# Altium integrated library AD Video Processor.IntLib: 3 symbols
Pins are listed as number, name and electrical type; pins without a type are passive.

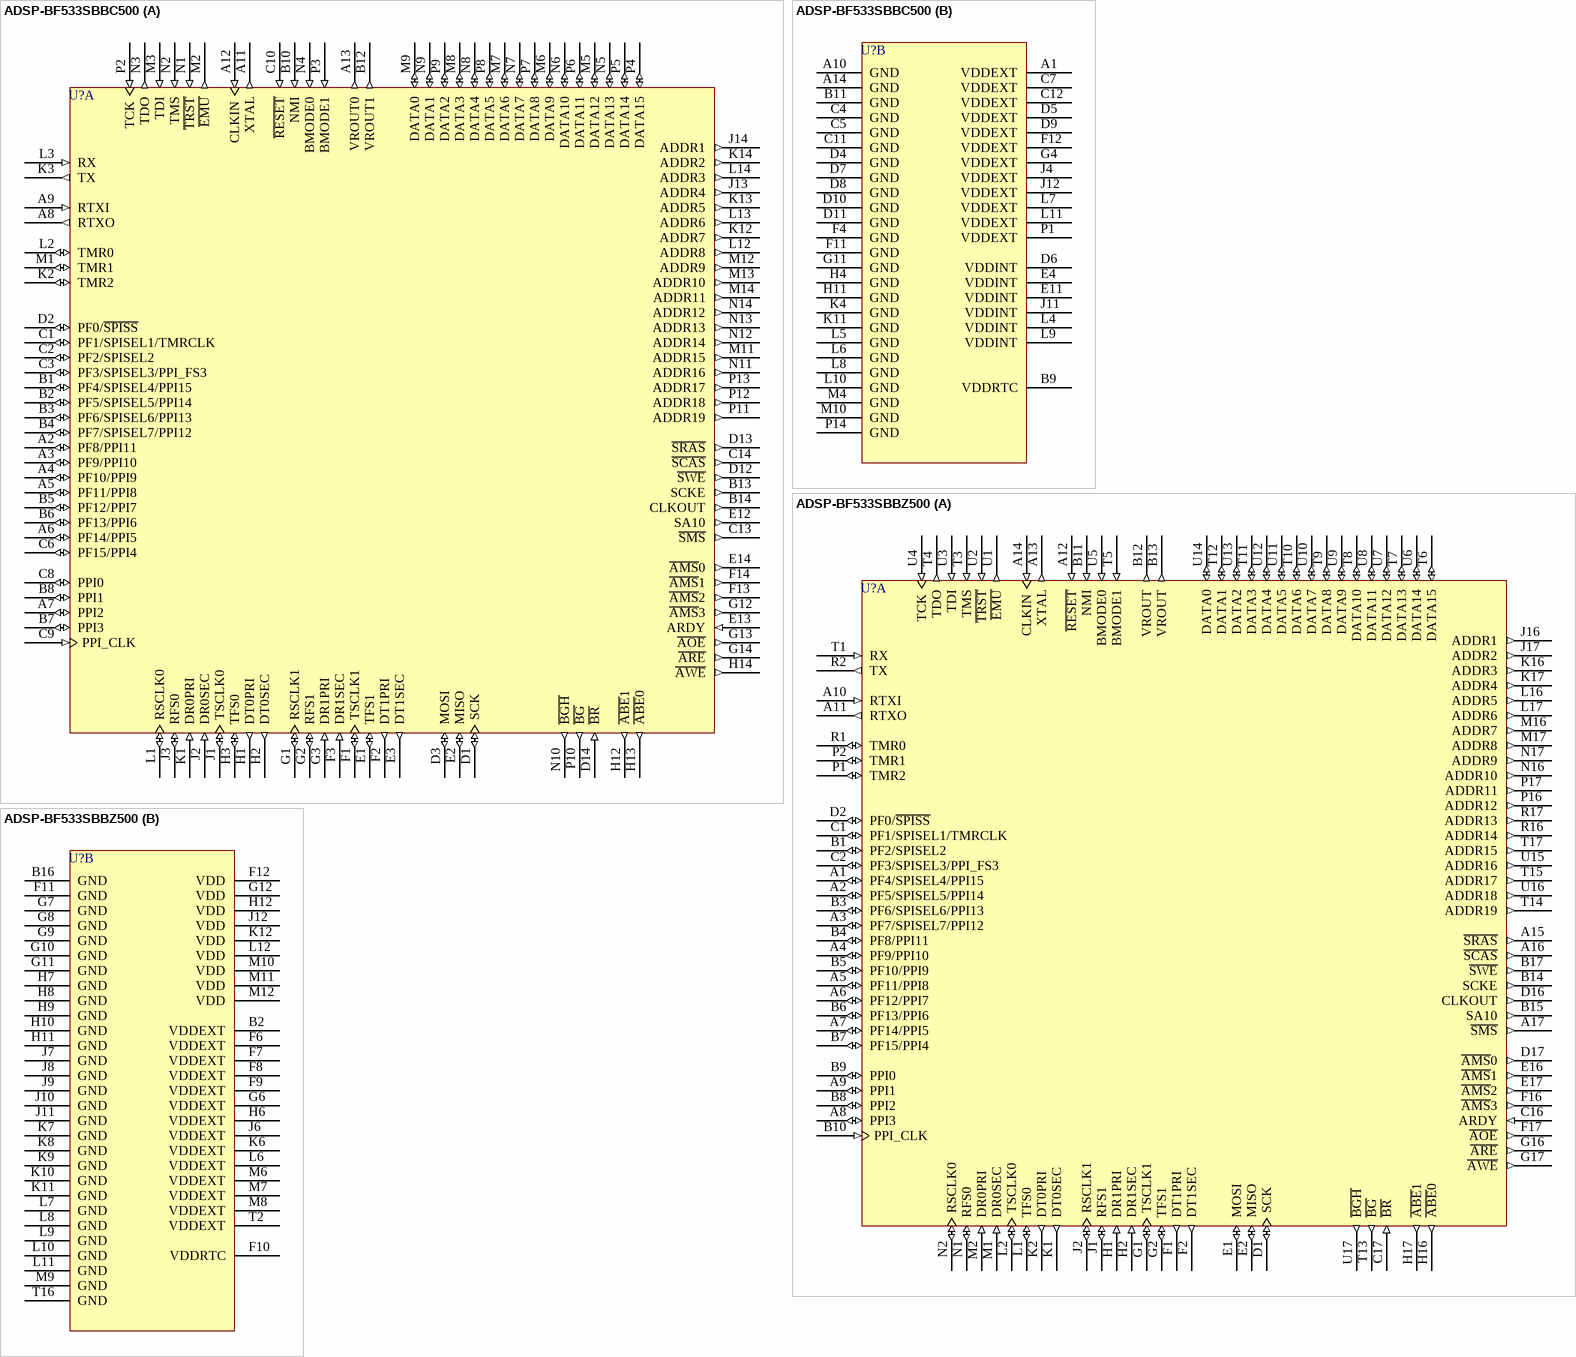
[diagram p0: symbols ADSP-BF533SBBC500 to ADSP-BF533SBBZ500]

## ADSP-BF533SBBC500
designator U?
Blackfin Embedded Processor for Video/Imaging, 160-Pin Mini BGA, 500 MHz, Industrial; Note: Pull Pin D14 HIGH and Pin A9 LOW when not used.; Note: Pulled Pin E2 HIGH through a 4.7K Ohm resistor if booting via the SPI port.; Note: Pull Pin N1 LOW if the JTAG port will not be used.; Published: 26-May-2004; LatestRevisionDate: 13-Apr-2006; LatestRevisionNote: IPC-7351 Footprint Added.; DatasheetVersion: Rev.O, Mar-2004; PackageVersion: Rev. 0, Mar-2004; PackageReference: BC-160; Publisher: Altium Limited; PackageDescription: 160-Ball Mini Plastic Ball Grid Array 0.8 mm Pitch; Code_JEDEC: MO-205-AE; ComponentLink1Description: Manufacturer Link; ComponentLink1URL: http://www.analog.com/; ComponentLink2Description: Datasheet; ComponentLink2URL: http://www.analog.com/UploadedFiles/Data_Sheets/144127970ADSP_BF531_2_3_a.pdf
footprint BC-160 (BGA, 160-Leads, Body 12x12mm, Pitch 0.8mm)
3D model BF533-BC160 (160-Ball Mini Plastic Ball Grid Array 0.8 mm Pitch)
part A pins: A2 PF8/PPI11 (io), A3 PF9/PPI10 (io), A4 PF10/PPI9 (io), A5 PF11/PPI8 (io), A6 PF14/PPI5 (io), A7 PPI2 (io), A8 RTXO (out), A9 RTXI (in), A11 XTAL (out), A12 CLKIN (in), A13 VROUT0 (out), B1 PF4/SPISEL4/PPI15 (io), B2 PF5/SPISEL5/PPI14 (io), B3 PF6/SPISEL6/PPI13 (io), B4 PF7/SPISEL7/PPI12 (io), B5 PF12/PPI7 (io), B6 PF13/PPI6 (io), B7 PPI3 (io), B8 PPI1 (io), B10 NMI (in), B12 VROUT1 (out), B13 SCKE (out), B14 CLKOUT (out), C1 PF1/SPISEL1/TMRCLK (io), C2 PF2/SPISEL2 (io), C3 PF3/SPISEL3/PPI_FS3 (io), C6 PF15/PPI4 (io), C8 PPI0 (io), C9 PPI_CLK (in), C10 ~{RESET} (in), C13 ~{SMS} (out), C14 ~{SCAS} (out), D1 SCK (io), D2 PF0/~{SPISS} (io), D3 MOSI (io), D12 ~{SWE} (out), D13 ~{SRAS} (out), D14 ~{BR} (in), E1 TFS1 (io), E2 MISO (io), E3 DT1SEC (out), E12 SA10 (out), E13 ARDY (in), E14 ~{AMS}0 (out), F1 TSCLK1 (io), F2 DT1PRI (out), F3 DR1SEC (in), F13 ~{AMS}2 (out), F14 ~{AMS}1 (out), G1 RSCLK1 (io), G2 RFS1 (io), G3 DR1PRI (in), G12 ~{AMS}3 (out), G13 ~{AOE} (out), G14 ~{ARE} (out), H1 DT0PRI (out), H2 DT0SEC (out), H3 TFS0 (io), H12 ~{ABE}1 (out), H13 ~{ABE}0 (out), H14 ~{AWE} (out), J1 TSCLK0 (io), J2 DR0SEC (in), J3 RFS0 (io), J13 ADDR4 (out), J14 ADDR1 (out), K1 DR0PRI (in), K2 TMR2 (io), K3 TX (out), K12 ADDR7 (out), K13 ADDR5 (out), K14 ADDR2 (out), L1 RSCLK0 (io), L2 TMR0 (io), L3 RX (in), L12 ADDR8 (out), L13 ADDR6 (out), L14 ADDR3 (out), M1 TMR1 (io), M2 ~{EMU} (out), M3 TDI (in), M5 DATA12 (io), M6 DATA9 (io), M7 DATA6 (io), M8 DATA3 (io), M9 DATA0 (io), M11 ADDR15 (out), M12 ADDR9 (out), M13 ADDR10 (out), M14 ADDR11 (out), N1 ~{TRST} (in), N2 TMS (in), N3 TDO (out), N4 BMODE0 (in), N5 DATA13 (io), N6 DATA10 (io), N7 DATA7 (io), N8 DATA4 (io), N9 DATA1 (io), N10 ~{BGH} (out), N11 ADDR16 (out), N12 ADDR14 (out), N13 ADDR13 (out), N14 ADDR12 (out), P2 TCK (in), P3 BMODE1 (in), P4 DATA15 (io), P5 DATA14 (io), P6 DATA11 (io), P7 DATA8 (io), P8 DATA5 (io), P9 DATA2 (io), P10 ~{BG} (out), P11 ADDR19 (out), P12 ADDR18 (out), P13 ADDR17 (out)
part B pins: A1 VDDEXT (power), A10 GND (power), A14 GND (power), B9 VDDRTC (power), B11 GND (power), C4 GND (power), C5 GND (power), C7 VDDEXT (power), C11 GND (power), C12 VDDEXT (power), D4 GND (power), D5 VDDEXT (power), D6 VDDINT (power), D7 GND (power), D8 GND (power), D9 VDDEXT (power), D10 GND (power), D11 GND (power), E4 VDDINT (power), E11 VDDINT (power), F4 GND (power), F11 GND (power), F12 VDDEXT (power), G4 VDDEXT (power), G11 GND (power), H4 GND (power), H11 GND (power), J4 VDDEXT (power), J11 VDDINT (power), J12 VDDEXT (power), K4 GND (power), K11 GND (power), L4 VDDINT (power), L5 GND (power), L6 GND (power), L7 VDDEXT (power), L8 GND (power), L9 VDDINT (power), L10 GND (power), L11 VDDEXT (power), M4 GND (power), M10 GND (power), P1 VDDEXT (power), P14 GND (power)

## ADSP-BF533SBBZ500
designator U?
Blackfin Embedded Processor for Video/Imaging, 169-Pin PBGA, Lead-Free, 500 MHz, Industrial; Note: Pull Pin C17 HIGH and Pin A10 LOW when not used.; Note: Pulled Pin E2 HIGH through a 4.7K Ohm resistor if booting via the SPI port.; Note: Pull Pin U2 LOW if the JTAG port will not be used.; Published: 26-May-2004; LatestRevisionDate: 13-Apr-2006; LatestRevisionNote: IPC-7351 Footprint Added.; DatasheetVersion: Rev.O, Mar-2004; PackageVersion: Rev. 0, Mar-2004; PackageReference: B-169; Publisher: Altium Limited; PackageDescription: 169-Ball Mini Plastic Ball Grid Array 1 mm Pitch; Code_JEDEC: MS-034-AAG-2; ComponentLink1Description: Manufacturer Link; ComponentLink1URL: http://www.analog.com/; ComponentLink2Description: Datasheet; ComponentLink2URL: http://www.analog.com/UploadedFiles/Data_Sheets/144127970ADSP_BF531_2_3_a.pdf
footprint B-169 (BGA, 169-Leads, Body 19x19mm, Pitch 1mm)
3D model BF533-B169 (169-Ball Mini Plastic Ball Grid Array 1 mm Pitch)
part A pins: A1 PF4/SPISEL4/PPI15 (io), A2 PF5/SPISEL5/PPI14 (io), A3 PF7/SPISEL7/PPI12 (io), A4 PF9/PPI10 (io), A5 PF11/PPI8 (io), A6 PF12/PPI7 (io), A7 PF14/PPI5 (io), A8 PPI3 (io), A9 PPI1 (io), A10 RTXI (in), A11 RTXO (out), A12 ~{RESET} (in), A13 XTAL (out), A14 CLKIN (in), A15 ~{SRAS} (out), A16 ~{SCAS} (out), A17 ~{SMS} (out), B1 PF2/SPISEL2 (io), B3 PF6/SPISEL6/PPI13 (io), B4 PF8/PPI11 (io), B5 PF10/PPI9 (io), B6 PF13/PPI6 (io), B7 PF15/PPI4 (io), B8 PPI2 (io), B9 PPI0 (io), B10 PPI_CLK (in), B11 NMI (in), B12 VROUT (out), B13 VROUT (out), B14 SCKE (out), B15 SA10 (out), B17 ~{SWE} (out), C1 PF1/SPISEL1/TMRCLK (io), C2 PF3/SPISEL3/PPI_FS3 (io), C16 ARDY (in), C17 ~{BR} (in), D1 SCK (io), D2 PF0/~{SPISS} (io), D16 CLKOUT (out), D17 ~{AMS}0 (out), E1 MOSI (io), E2 MISO (io), E16 ~{AMS}1 (out), E17 ~{AMS}2 (out), F1 DT1PRI (out), F2 DT1SEC (out), F16 ~{AMS}3 (out), F17 ~{AOE} (out), G1 TSCLK1 (io), G2 TFS1 (io), G16 ~{ARE} (out), G17 ~{AWE} (out), H1 DR1PRI (in), H2 DR1SEC (in), H16 ~{ABE}0 (out), H17 ~{ABE}1 (out), J1 RFS1 (io), J2 RSCLK1 (io), J16 ADDR1 (out), J17 ADDR2 (out), K1 DT0SEC (out), K2 DT0PRI (out), K16 ADDR3 (out), K17 ADDR4 (out), L1 TFS0 (io), L2 TSCLK0 (io), L16 ADDR5 (out), L17 ADDR6 (out), M1 DR0SEC (in), M2 DR0PRI (in), M16 ADDR7 (out), M17 ADDR8 (out), N1 RFS0 (io), N2 RSCLK0 (io), N16 ADDR10 (out), N17 ADDR9 (out), P1 TMR2 (io), P2 TMR1 (io), P16 ADDR12 (out), P17 ADDR11 (out), R1 TMR0 (io), R2 TX (out), R16 ADDR14 (out), R17 ADDR13 (out), T1 RX (in), T3 TMS (in), T4 TDO (out), T5 BMODE1 (in), T6 DATA15 (io), T7 DATA13 (io), T8 DATA10 (io), T9 DATA8 (io), T10 DATA6 (io), T11 DATA3 (io), T12 DATA1 (io), T13 ~{BG} (out), T14 ADDR19 (out), T15 ADDR17 (out), T17 ADDR15 (out), U1 ~{EMU} (out), U2 ~{TRST} (in), U3 TDI (in), U4 TCK (in), U5 BMODE0 (in), U6 DATA14 (io), U7 DATA12 (io), U8 DATA11 (io), U9 DATA9 (io), U10 DATA7 (io), U11 DATA5 (io), U12 DATA4 (io), U13 DATA2 (io), U14 DATA0 (io), U15 ADDR16 (out), U16 ADDR18 (out), U17 ~{BGH} (out)
part B pins: B2 VDDEXT (power), B16 GND (power), F6 VDDEXT (power), F7 VDDEXT (power), F8 VDDEXT (power), F9 VDDEXT (power), F10 VDDRTC (power), F11 GND (power), F12 VDD (power), G6 VDDEXT (power), G7 GND (power), G8 GND (power), G9 GND (power), G10 GND (power), G11 GND (power), G12 VDD (power), H6 VDDEXT (power), H7 GND (power), H8 GND (power), H9 GND (power), H10 GND (power), H11 GND (power), H12 VDD (power), J6 VDDEXT (power), J7 GND (power), J8 GND (power), J9 GND (power), J10 GND (power), J11 GND (power), J12 VDD (power), K6 VDDEXT (power), K7 GND (power), K8 GND (power), K9 GND (power), K10 GND (power), K11 GND (power), K12 VDD (power), L6 VDDEXT (power), L7 GND (power), L8 GND (power), L9 GND (power), L10 GND (power), L11 GND (power), L12 VDD (power), M6 VDDEXT (power), M7 VDDEXT (power), M8 VDDEXT (power), M9 GND (power), M10 VDD (power), M11 VDD (power), M12 VDD (power), T2 VDDEXT (power), T16 GND (power)

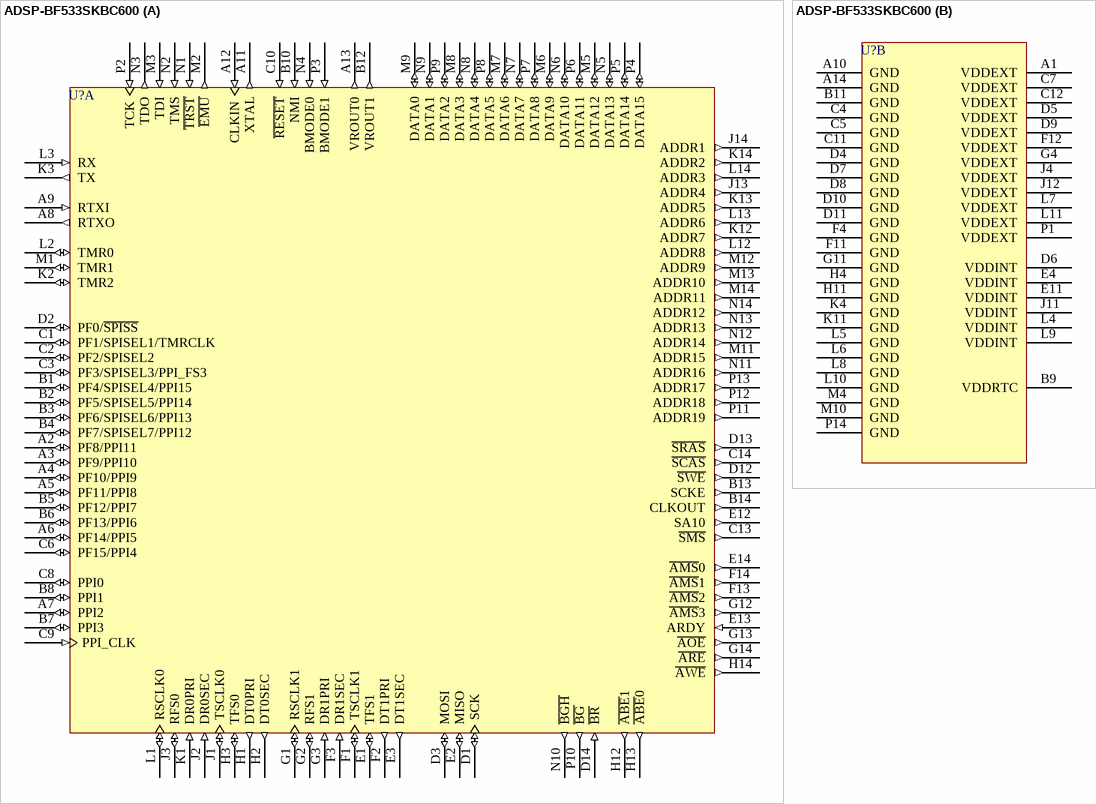
[diagram p1: symbol ADSP-BF533SKBC600]

## ADSP-BF533SKBC600
designator U?
Blackfin Embedded Processor for Video/Imaging, 160-Pin Mini BGA, 600 MHz, Commercial; Note: Pull Pin D14 HIGH and Pin A9 LOW when not used.; Note: Pulled Pin E2 HIGH through a 4.7K Ohm resistor if booting via the SPI port.; Note: Pull Pin N1 LOW if the JTAG port will not be used.; Published: 26-May-2004; LatestRevisionDate: 13-Apr-2006; LatestRevisionNote: IPC-7351 Footprint Added.; DatasheetVersion: Rev.O, Mar-2004; PackageVersion: Rev. 0, Mar-2004; PackageReference: BC-160; Publisher: Altium Limited; PackageDescription: 160-Ball Mini Plastic Ball Grid Array 0.8 mm Pitch; Code_JEDEC: MO-205-AE; ComponentLink1Description: Manufacturer Link; ComponentLink1URL: http://www.analog.com/; ComponentLink2Description: Datasheet; ComponentLink2URL: http://www.analog.com/UploadedFiles/Data_Sheets/144127970ADSP_BF531_2_3_a.pdf
footprint BC-160 (BGA, 160-Leads, Body 12x12mm, Pitch 0.8mm)
3D model BF533-BC160 (160-Ball Mini Plastic Ball Grid Array 0.8 mm Pitch)
part A pins: A2 PF8/PPI11 (io), A3 PF9/PPI10 (io), A4 PF10/PPI9 (io), A5 PF11/PPI8 (io), A6 PF14/PPI5 (io), A7 PPI2 (io), A8 RTXO (out), A9 RTXI (in), A11 XTAL (out), A12 CLKIN (in), A13 VROUT0 (out), B1 PF4/SPISEL4/PPI15 (io), B2 PF5/SPISEL5/PPI14 (io), B3 PF6/SPISEL6/PPI13 (io), B4 PF7/SPISEL7/PPI12 (io), B5 PF12/PPI7 (io), B6 PF13/PPI6 (io), B7 PPI3 (io), B8 PPI1 (io), B10 NMI (in), B12 VROUT1 (out), B13 SCKE (out), B14 CLKOUT (out), C1 PF1/SPISEL1/TMRCLK (io), C2 PF2/SPISEL2 (io), C3 PF3/SPISEL3/PPI_FS3 (io), C6 PF15/PPI4 (io), C8 PPI0 (io), C9 PPI_CLK (in), C10 ~{RESET} (in), C13 ~{SMS} (out), C14 ~{SCAS} (out), D1 SCK (io), D2 PF0/~{SPISS} (io), D3 MOSI (io), D12 ~{SWE} (out), D13 ~{SRAS} (out), D14 ~{BR} (in), E1 TFS1 (io), E2 MISO (io), E3 DT1SEC (out), E12 SA10 (out), E13 ARDY (in), E14 ~{AMS}0 (out), F1 TSCLK1 (io), F2 DT1PRI (out), F3 DR1SEC (in), F13 ~{AMS}2 (out), F14 ~{AMS}1 (out), G1 RSCLK1 (io), G2 RFS1 (io), G3 DR1PRI (in), G12 ~{AMS}3 (out), G13 ~{AOE} (out), G14 ~{ARE} (out), H1 DT0PRI (out), H2 DT0SEC (out), H3 TFS0 (io), H12 ~{ABE}1 (out), H13 ~{ABE}0 (out), H14 ~{AWE} (out), J1 TSCLK0 (io), J2 DR0SEC (in), J3 RFS0 (io), J13 ADDR4 (out), J14 ADDR1 (out), K1 DR0PRI (in), K2 TMR2 (io), K3 TX (out), K12 ADDR7 (out), K13 ADDR5 (out), K14 ADDR2 (out), L1 RSCLK0 (io), L2 TMR0 (io), L3 RX (in), L12 ADDR8 (out), L13 ADDR6 (out), L14 ADDR3 (out), M1 TMR1 (io), M2 ~{EMU} (out), M3 TDI (in), M5 DATA12 (io), M6 DATA9 (io), M7 DATA6 (io), M8 DATA3 (io), M9 DATA0 (io), M11 ADDR15 (out), M12 ADDR9 (out), M13 ADDR10 (out), M14 ADDR11 (out), N1 ~{TRST} (in), N2 TMS (in), N3 TDO (out), N4 BMODE0 (in), N5 DATA13 (io), N6 DATA10 (io), N7 DATA7 (io), N8 DATA4 (io), N9 DATA1 (io), N10 ~{BGH} (out), N11 ADDR16 (out), N12 ADDR14 (out), N13 ADDR13 (out), N14 ADDR12 (out), P2 TCK (in), P3 BMODE1 (in), P4 DATA15 (io), P5 DATA14 (io), P6 DATA11 (io), P7 DATA8 (io), P8 DATA5 (io), P9 DATA2 (io), P10 ~{BG} (out), P11 ADDR19 (out), P12 ADDR18 (out), P13 ADDR17 (out)
part B pins: A1 VDDEXT (power), A10 GND (power), A14 GND (power), B9 VDDRTC (power), B11 GND (power), C4 GND (power), C5 GND (power), C7 VDDEXT (power), C11 GND (power), C12 VDDEXT (power), D4 GND (power), D5 VDDEXT (power), D6 VDDINT (power), D7 GND (power), D8 GND (power), D9 VDDEXT (power), D10 GND (power), D11 GND (power), E4 VDDINT (power), E11 VDDINT (power), F4 GND (power), F11 GND (power), F12 VDDEXT (power), G4 VDDEXT (power), G11 GND (power), H4 GND (power), H11 GND (power), J4 VDDEXT (power), J11 VDDINT (power), J12 VDDEXT (power), K4 GND (power), K11 GND (power), L4 VDDINT (power), L5 GND (power), L6 GND (power), L7 VDDEXT (power), L8 GND (power), L9 VDDINT (power), L10 GND (power), L11 VDDEXT (power), M4 GND (power), M10 GND (power), P1 VDDEXT (power), P14 GND (power)